# Altium footprint library TPS543xx_family.PcbLib: 2 footprints
Each footprint in its own frame and in the unit in brackets; x right, y up, seen from the top. Pads: shape width x height; smd on the part's side, far side on the other; paste and mask are expansions set on the pad; w line width, h text height; cw(c..) or ccw(c..) is an arc to the next point about the centre after c.
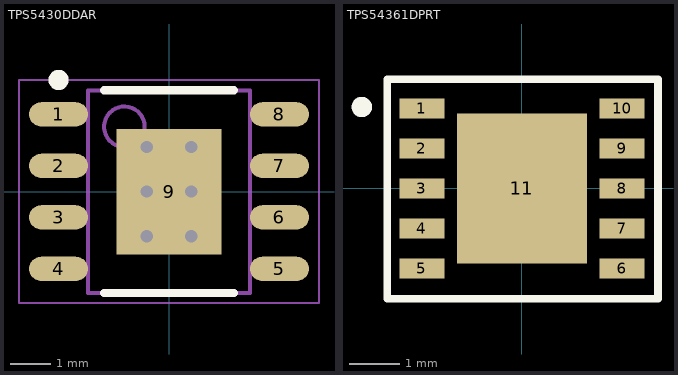
[diagram p0: the footprints below, top view; thin cyan lines are the x and y axes]

## TPS5430DDAR [mm] "SOP, 8-Leads, Body 4.90x3.90mm, Pitch 1.27mm, Thermal Pad 3.10x2.60mm, IPC Medium Density"
height 1.7
pads (9):
  oval 1.45x0.6 smd: 1(-2.725,1.905) 2(-2.725,0.635) 3(-2.725,-0.635) 4(-2.725,-1.905) 5(2.725,-1.905) 6(2.725,-0.635) 7(2.725,0.635) 8(2.725,1.905)
  rect 2.6x3.1 smd: 9(0,0)
via -0.55,1.1 diameter 0.5 hole 0.3
via 0.55,1.1 diameter 0.5 hole 0.3
via -0.55,0 diameter 0.5 hole 0.3
via 0.55,0 diameter 0.5 hole 0.3
via -0.55,-1.1 diameter 0.5 hole 0.3
via 0.55,-1.1 diameter 0.5 hole 0.3
Top Overlay:
  circle w0.25: c-2.725,2.755 r0.125
  lines w0.2: -1.6,-2.5 1.6,-2.5 ; -1.6,2.5 1.6,2.5
Top Designator:
  text ".Designator" at -5.998,-0.4 h1.2
Mechanical 13:
  circle w0.1: c-1.1,1.6 r0.5
  lines w0.1: -2,-2.5 -2,2.5 2,2.5 2,-2.5 -2,-2.5
Mechanical 15:
  lines w0.05: -3.7,-2.75 -3.7,2.75 3.7,2.75 3.7,-2.75 -3.7,-2.75
  lines w0.1: -0.5,0 0.5,0 ; 0,-0.5 0,0.5
3D body "SOP127P600X170_HS-9N.step": height 1.7, standoff 0, extent -3,-2.5 3,2.5

## TPS54361DPRT [mm]
pads (11):
  rect 0.9x0.4 smd: 1(-2,1.6) 2(-2,0.8) 3(-2,0) 4(-2,-0.8) 5(-2,-1.6) 6(2,-1.6) 7(2,-0.8) 8(2,0) 9(2,0.8) 10(2,1.6)
  rect 2.6x3 smd: 11(0,0)
Top Overlay:
  circle w0.254: c-3.2,1.626 r0.076
  lines w0.15: -2.692,-2.21 -2.692,2.184 2.718,2.184 2.718,-2.21 -2.692,-2.21
Top Designator:
  text ".Designator" at -5.998,-0.4 h1.2
3D body "TPS54361DPRT.stp": height 0.8, standoff 0, extent -1.984,-1.995 2.016,2.005